# Altium footprint library 1_to_5_Pin.PcbLib: 194 footprints (part 2 of 13)
Each footprint in its own frame and in the unit in brackets; x right, y up, seen from the top. Pads: shape width x height; smd on the part's side, far side on the other; paste and mask are expansions set on the pad; w line width, h text height; cw(c..) or ccw(c..) is an arc to the next point about the centre after c.
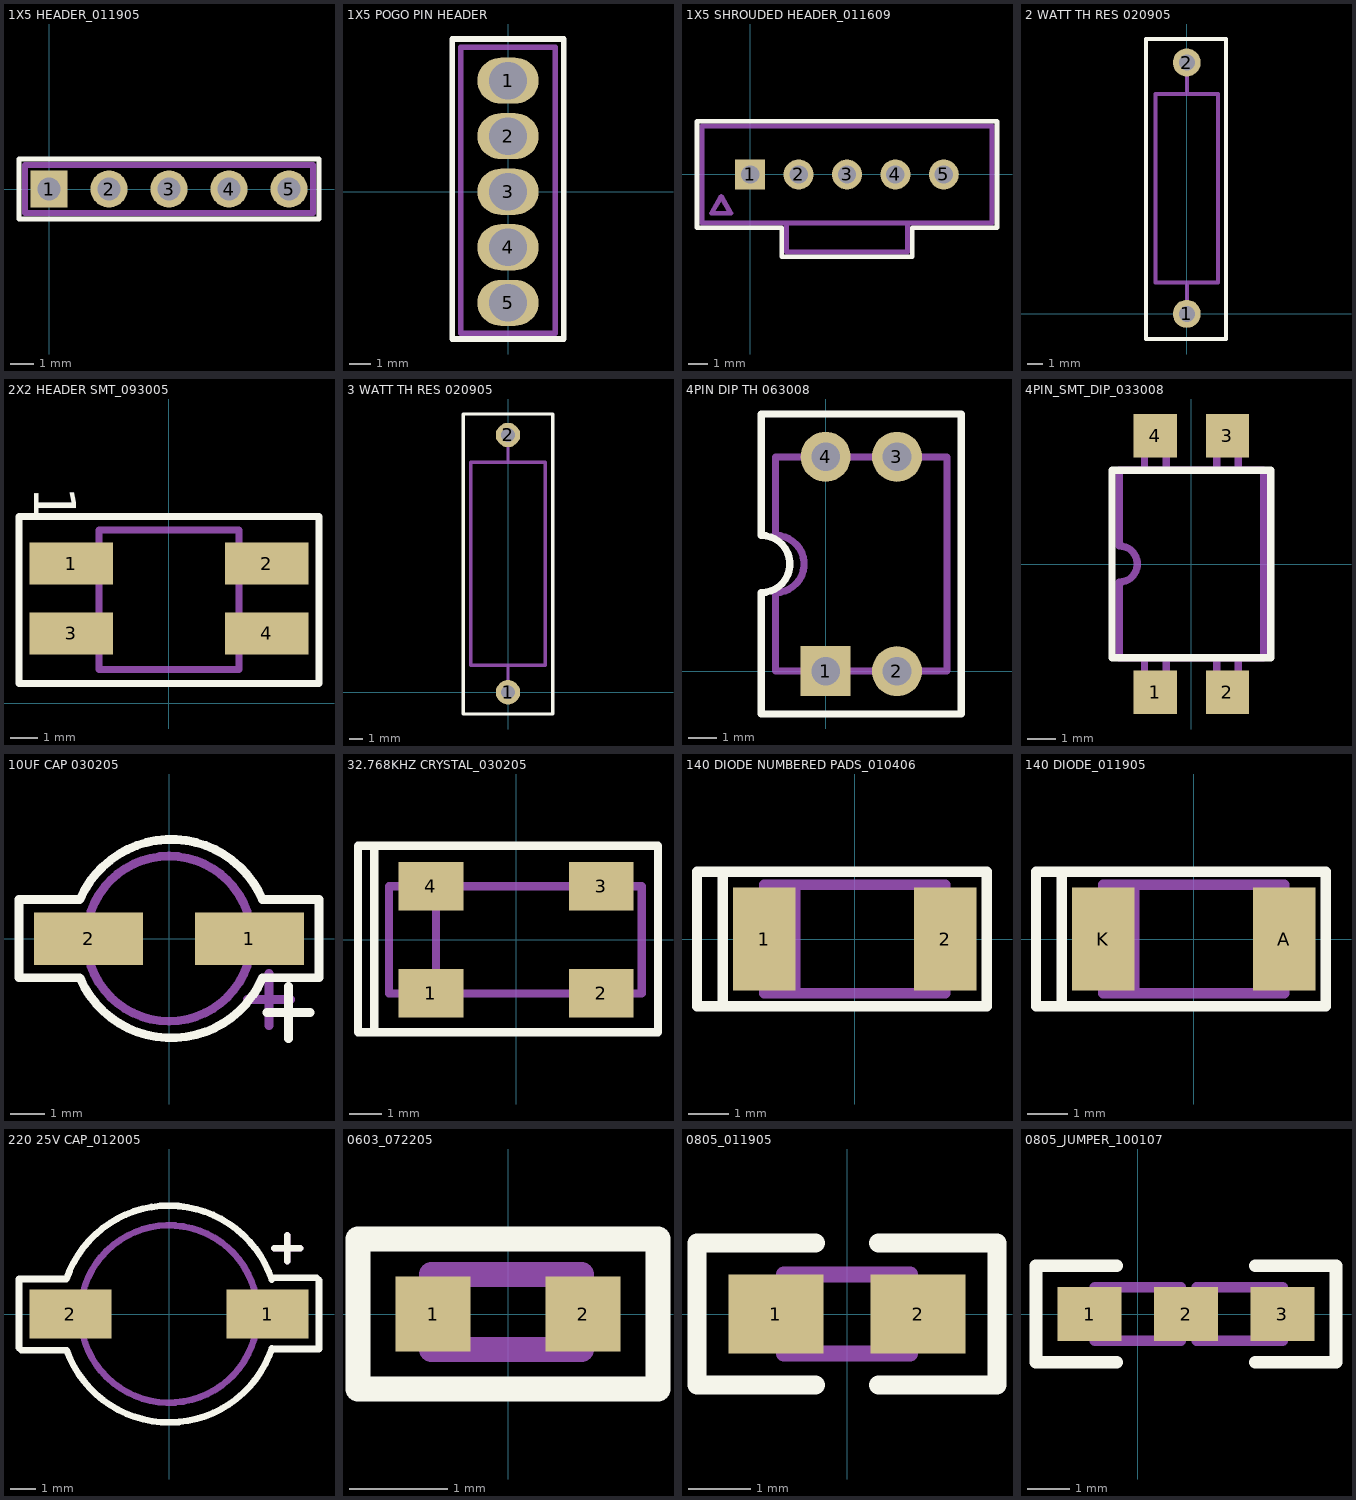
[diagram p1: the footprints below, top view; thin cyan lines are the x and y axes]

## 1X5 HEADER_011905 [mil] "TH"
height 315
pads (5):
  rect 62x62 hole 38: 1(0,0)
  round 62 hole 38: 2(100,0) 3(200,0) 4(300,0) 5(400,0)
Top Overlay:
  lines w8: -50,-50 450,-50 450,50 -50,50 -50,-50
Assembly Outline:
  lines w10: -40,-40 440,-40 440,40 -40,40 -40,-40 ; -13,-12 12,-12 12,13 -13,13 -13,-12 ; 87,-12 112,-12 112,13 87,13 87,-12 ; 187,-12 212,-12 212,13 187,13 187,-12 ; 287,-12 312,-12 312,13 287,13 287,-12 ; 387,-12 412,-12 412,13 387,13 387,-12
Assembly Designator:
  text ".Designator" at -55,-55 h40
Assembly Comment:
  text ".Comment" at -5,50 h40

## 1X5 POGO PIN HEADER [mil] "TH"
height 750
pads (5):
  oval 110x83 hole 68: 1(0,200) 2(0,100) 3(0,0) 4(0,-100) 5(0,-200)
Top Overlay:
  lines w10: -100,-265.13 -100,275 100,275 100,200 100,-265.13 -100,-265.13
Assembly Outline:
  lines w10: -85,-255 85,-255 85,260 -85,260 -85,-255
Assembly Designator:
  text ".Designator" at -15,70 h40
Assembly Comment:
  text ".Comment" at -10,225 h40

## 1X5 SHROUDED HEADER_011609 [mil] "TH"
height 533.86
pads (5):
  rect 62x62 hole 38: 1(0,0)
  round 62 hole 38: 2(100,0) 3(200,0) 4(300,0) 5(400,0)
Top Overlay:
  lines w10: -110,-110 65,-110 65,-170 335,-170 335,-110 510,-110 510,110 -110,110 -110,-110
Assembly Outline:
  lines w10: 75,-100 75,-160 325,-160 325,-100 ; -100,-100 -100,0 -100,100 500,100 500,-100 -100,-100 ; -80,-80 -40,-80 -60,-45.36 -80,-80
Assembly Designator:
  text ".Designator" at 107.2,-83.35 h40
Assembly Comment:
  text ".Comment" at -77.76,45.28 h40

## 2 WATT TH RES 020905 [mil] "TH"
height 140
pads (2):
  round 70 hole 40: 1(0,0) 2(0,629.92)
Top Overlay:
  lines w10: -102.36,-62.99 -102.36,688.98 -27.56,688.98 98.43,688.98 98.43,-62.99 -102.36,-62.99
Assembly Outline:
  lines w10: -55.12,78.74 55.12,78.74 0,78.74 0,0 ; 0,629.92 0,551.18 78.74,551.18 78.74,78.74 -78.74,78.74 -78.74,551.18 -55.12,551.18 55.12,551.18 ; 55.12,551.18 55.12,551.18
Assembly Designator:
  text ".Designator" at -120,155 h60
Assembly Comment:
  text ".Comment" at 30,160 h60

## 2X2 HEADER SMT_093005 [mil] "SMT"
height 500
pads (4):
  rect 120x60 smd: 1(-140,200) 2(140,200) 3(-140,100) 4(140,100)
Top Overlay:
  lines w10: -215,27.8 0,27.8 215,27.8 215,175.3 215,267.8 0,267.8 -215,267.8 -215,50.3 -215,27.8
  text "1" at -192.91,311.02 h60
Assembly Outline:
  lines w10: -100,85 -160,85 -160,100 -160,115 -100,115 ; -100,185 -160,185 -160,200 -160,215 -100,215 ; 100,85 160,85 160,100 160,115 100,115 ; 100,185 160,185 160,200 160,215 100,215 ; -100,48.03 -100,248.03 0,248.03 100,248.03 100,48.03 -100,48.03
Assembly Designator:
  text ".Designator" at -27.56,122.05 h40
Assembly Comment:
  text ".Comment" at -74.8,-35.43 h40

## 3 WATT TH RES 020905 [mm] "TH"
height 5.715
pads (2):
  round 1.8 hole 1: 1(0,0) 2(0,19)
Top Overlay:
  lines w0.254: -3.3,-1.6 -3.3,20.55 -1.4,20.55 3.3,20.55 3.3,-1.6 -3.3,-1.6
Assembly Outline:
  lines w0.254: -2,2 2,2 ; -2,17 2,17 ; -1.4,2 1.4,2 0,2 0,0 ; 0,19 0,17 -2.75,17 -2.75,2 2.75,2 2.75,17 2,17 ; 2,17 2,17 ; 2,17 2,17
Assembly Designator:
  text ".Designator" at -0.508,5.588 h1.52
Assembly Comment:
  text ".Comment" at 1.524,5.588 h1.52

## 4PIN DIP TH 063008 [mil] "TH"
height 160
pads (4):
  rect 70x70 hole 40: 1(0,0)
  round 70 hole 40: 2(100,0) 3(100,300) 4(0,300)
Top Overlay:
  lines w10: -90,-60 -90,110 ccw(c-90,150) -90,190 -90,360 190,360 190,-60 -90,-60
Assembly Outline:
  lines w10: -70,0 -70,110 ccw(c-70,150) -70,190 -70,300 170,300 170,0 -70,0
Assembly Designator:
  text ".Designator" at 0,140 h40
Assembly Comment:
  text ".Comment" at -36.42,62.01 h40

## 4PIN_SMT_DIP_033008 [mil] "SMT"
height 4.6
pads (4):
  rect 60x60 smd: 1(-50,-178) 2(50,-178) 3(50,178) 4(-50,178)
Top Overlay:
  lines w10: -110,-130 -110,130 110,130 110,-130 -110,-130
Assembly Outline:
  lines w10: -65,-130 -65,-178 -35,-178 -35,-131 ; -65,131 -65,178 -35,178 -35,130 ; 35,-130 35,-178 65,-178 65,-131 ; 35,131 35,178 65,178 65,130 ; -100,-130 100,-130 100,130 -100,130 -100,25.02 cw(c-100,0) -100,-25.02 -100,-130
Assembly Designator:
  text ".Designator" at -50,-8 h40
Assembly Comment:
  text ".Comment" at 160,-148 h40

## 10UF CAP 030205 [mil] "SMT"
height 300
pads (2):
  rect 125x60 smd: 1(92.5,0) 2(-92.5,0)
Top Overlay:
  lines w10: 112.5,-85 137.5,-85 162.5,-85 ; 137.5,-115 137.5,-55 ; -172.5,-45 -172.5,45 -102.5,45 cw(c2.5,0) 107.5,45 172.5,45 172.5,-45 107.5,-45 cw(c2.5,0) -102.5,-45 -172.5,-45
Assembly Outline:
  circle w10: c0,0 r95
  lines w10: -95,-20 -120,-20 -120,20 -95,20 ; 90,-70 140,-70 ; 95,-20 120,-20 120,20 95,20 ; 115,-100 115,-40
Assembly Designator:
  text ".Designator" at -40,-15 h40
Assembly Comment:
  text ".Comment" at -105,-150 h40

## 32.768KHZ CRYSTAL_030205 [mil] "SMT"
height 100
pads (4):
  rect 80x60 smd: 1(-105,-66) 2(105,-66) 3(105,66) 4(-105,66)
Top Overlay:
  lines w10: -175,-114 175,-114 175,116 85,116 -175,116 ; -175,-114 -175,116 ; -175,-114 -195,-114 -195,116 -175,116
Assembly Outline:
  lines w10: -99,-66 -99,66 ; -97,-66 -97,-76 -117,-76 -117,-66 -157,-66 ; -97,66 -97,76 -117,76 -117,66 -157,66 ; 95,-66 95,-76 115,-76 115,-66 155,-66 ; 95,66 95,76 115,76 115,66 155,66 ; -157,-66 155,-66 ; -157,-66 -157,66 ; -157,66 155,66 ; 155,-66 155,66
Assembly Designator:
  text ".Designator" at -115,-15 h40
Assembly Comment:
  text ".Comment" at -160,-130 h40

## 140 DIODE NUMBERED PADS_010406 [mil] "SMT"
height 80
pads (2):
  rect 60x100 smd: 1(-87.5,0) 2(87.5,0)
Top Overlay:
  lines w10: -127.5,-65 127.5,-65 127.5,65 -77.5,65 -127.5,65 ; -127.5,-65 -127.5,65 ; -127.5,-65 -152.5,-65 -152.5,65 -127.5,65
Assembly Outline:
  lines w10: -57.5,-52.5 -57.5,52.5 ; -87.5,-52.5 87.5,-52.5 87.5,52.5 -87.5,52.5 -87.5,-52.5
Assembly Designator:
  text ".Designator" at -30,-20 h40
Assembly Comment:
  text ".Comment" at -100,65 h50

## 140 DIODE_011905 [mil] "SMT"
height 80
pads (2):
  rect 60x100 smd: A(87.5,0) K(-87.5,0)
Top Overlay:
  lines w10: -127.5,-65 -152.5,-65 -152.5,65 -127.5,65 ; -127.5,-65 -127.5,65 ; -127.5,-65 127.5,-65 127.5,65 -77.5,65 -127.5,65
Assembly Outline:
  lines w10: -57.5,-52.5 -57.5,52.5 ; -87.5,-52.5 -87.5,52.5 87.5,52.5 87.5,-52.5 -87.5,-52.5
Assembly Designator:
  text ".Designator" at -30,-20 h40
Assembly Comment:
  text ".Comment" at -100,65 h50

## 220 25V CAP_012005 [mil] "SMT"
height 300
pads (2):
  rect 125x75 smd: 1(150,0) 2(-150,0)
Top Overlay:
  lines w10: 155.57,55.2 224.8,55.2 228.32,51.68 228.32,-53.32 156.15,-53.32 ; 156.53,52.18 ccw(c0,0) -156.15,53.32 -228.32,53.32 -228.32,-51.68 -224.8,-55.2 -155.57,-55.2 ccw(c0,0) 156.6,-52.2 ; 160,100 200,100 ; 180,80 180,120
Assembly Outline:
  circle w10: c0,0 r135
  lines w10: 160,100 200,100 ; 180,80 180,120
Assembly Designator:
  text ".Designator" at -65,40 h40
Assembly Comment:
  text ".Comment" at -115,-10 h40

## 0603_072205 [mil] "SM"
height 20
pads (2):
  rect 30x30 smd: 1(-30,0) 2(30,0)
Top Overlay:
  lines w10: -60,-30 60,-30 60,30 -60,30 -60,0 -60,-30
Assembly Outline:
  lines w10: -30.53,-14.25 -30.53,15.75 29.47,15.75 29.47,-14.25 -30.53,-14.25
Assembly Designator:
  text ".Designator" at -28.54,-13.78 h30
Assembly Comment:
  text ".Comment" at -55.12,-73.82 h40

## 0805_011905 [mil] "SMT"
height 26
pads (2):
  rect 60x50 smd: 1(-45,0) 2(45,0)
Top Overlay:
  lines w12: -20,-45 -95,-45 -95,45 -20,45 ; 20,-45 95,-45 95,45 20,45
Assembly Outline:
  lines w10: -40,-25 40,-25 40,25 -40,25 -40,-25
Assembly Designator:
  text ".Designator" at -58.07,43.31 h40
Assembly Comment:
  text ".Comment" at -77.76,-85.63 h40

## 0805_JUMPER_100107 [mil] "SMT"
height 26
pads (3):
  rect 60x50 smd: 1(-45,0) 2(45,0) 3(135,0)
Top Overlay:
  lines w12: -20,-45 -95,-45 -95,45 -20,45 ; 110,-45 185,-45 185,45 110,45
Assembly Outline:
  lines w10: -40,-25 40,-25 40,25 -40,25 -40,-25 ; 55,-25 55,25 135,25 135,-25 55,-25
Assembly Designator:
  text ".Designator" at -55,50 h40
Assembly Comment:
  text ".Comment" at -77.76,-85.63 h40